# Altium footprint library AD8318.PcbLib: 1 footprints
Each footprint in its own frame and in the unit in brackets; x right, y up, seen from the top. Pads: shape width x height; smd on the part's side, far side on the other; paste and mask are expansions set on the pad; w line width, h text height; cw(c..) or ccw(c..) is an arc to the next point about the centre after c.
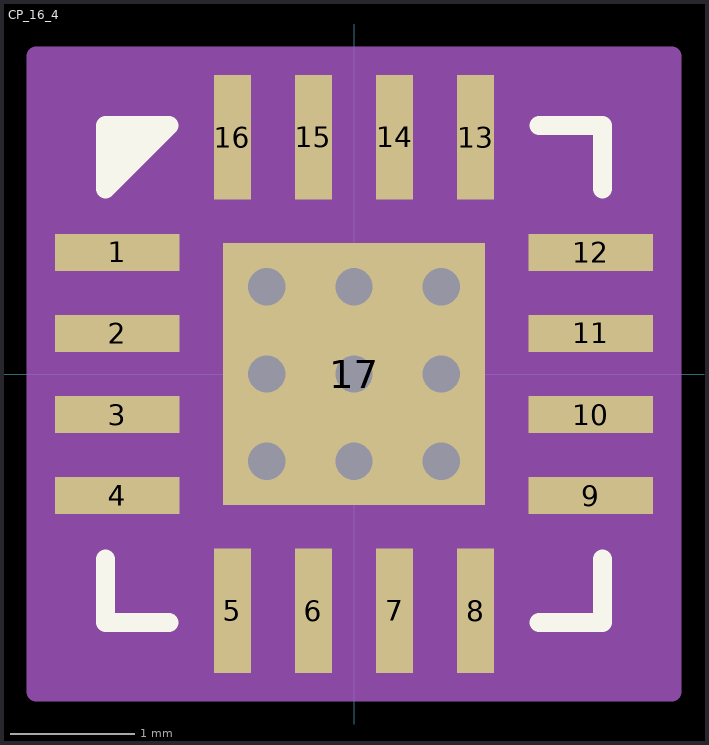
[diagram p0: the footprint, top view; thin cyan lines are the x and y axes]

## CP_16_4 [mm]
pads (17):
  rect 1x0.3 smd mask+0.102: 1(-1.9,0.975) 2(-1.9,0.325) 3(-1.9,-0.325) 4(-1.9,-0.975) 9(1.9,-0.975) 10(1.9,-0.325) 11(1.9,0.325) 12(1.9,0.975)
  rect 0.3x1 smd mask+0.102: 5(-0.975,-1.9) 6(-0.325,-1.9) 7(0.325,-1.9) 8(0.975,-1.9) 13(0.975,1.9) 14(0.325,1.9) 15(-0.325,1.9) 16(-0.975,1.9)
  rect 2.1x2.1 smd: 17(0,0)
via -0.7,0.7 diameter 0.6 hole 0.3
via -0.7,0 diameter 0.6 hole 0.3
via -0.7,-0.7 diameter 0.6 hole 0.3
via 0.7,-0.7 diameter 0.6 hole 0.3
via 0,-0.7 diameter 0.6 hole 0.3
via 0.7,0 diameter 0.6 hole 0.3
via 0.7,0.7 diameter 0.6 hole 0.3
via 0,0.7 diameter 0.6 hole 0.3
via 0,0 diameter 0.6 hole 0.3
Top Overlay:
  region: -1.486,1.994 -1.994,1.994 -1.994,1.486
  lines w0.152: -1.994,-1.486 -1.994,-1.994 -1.486,-1.994 ; 1.486,-1.994 1.994,-1.994 1.994,-1.486 ; 1.486,1.994 1.994,1.994 1.994,1.486 ; -1.994,1.486 -1.994,1.994 -1.486,1.994 -1.994,1.486
Mechanical 15:
  region: 2.553,-2.553 -2.553,-2.553 -2.553,2.553 2.553,2.553
  lines w0.152: -2.553,-2.553 2.553,-2.553 2.553,2.553 -2.553,2.553 -2.553,-2.553
3D body "CP_16_4.stp": height 0.97, standoff 0, extent -2.045,-2.045 2.045,2.045